# EAGLE library part 690207101272 (library Wuerth_Elektronik_eiCan_Wire_to_Board_Connectors)
WR-MM Transition Connector, 12 Pins=>Code : WR-MM_Leiterplattenverbinder_690207101272 <http://katalog.we-online.de/media/thumbs2/eican/thb_WR-MM_Leiterplattenverbinder_690207101072.jpg> Details see: http://katalog.we-online.de/en/em/6902_0710_xx_72 Created 2014-06-04, Karrer Zheng 2014 (C) Würth Elektronik
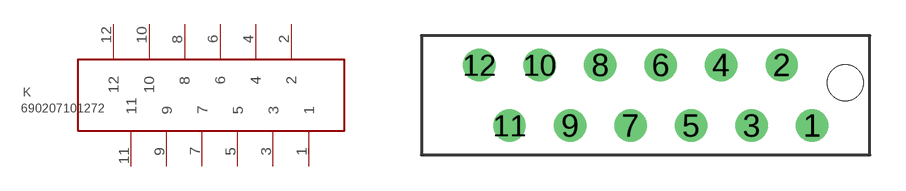
[diagram p94: symbol with the pads of 690207101272; footprint 690207101272]

Designator prefix K

## 690207101272  [690207101272]
1  1  pas
2  2  pas
3  3  pas
4  4  pas
5  5  pas
6  6  pas
7  7  pas
8  8  pas
9  9  pas
10  10  pas
11  11  pas
12  12  pas

## Footprint 690207101272 (pad centres in mm)
WR-MM Transition Connector, 12 Pins
drill 0.85: 1 4.445,-1.27; 2 3.175,1.27; 3 1.905,-1.27; 4 0.635,1.27; 5 -0.635,-1.27; 6 -1.905,1.27; 7 -3.175,-1.27; 8 -4.445,1.27; 9 -5.715,-1.27; 10 -6.985,1.27; 11 -8.255,-1.27; 12 -9.525,1.27
hole 1.5 at 5.845,0.53